# Altium footprint library Footprints.PcbLib: 33 footprints (part 3 of 3)
Each footprint in its own frame and in the unit in brackets; x right, y up, seen from the top. Pads: shape width x height; smd on the part's side, far side on the other; paste and mask are expansions set on the pad; w line width, h text height; cw(c..) or ccw(c..) is an arc to the next point about the centre after c.
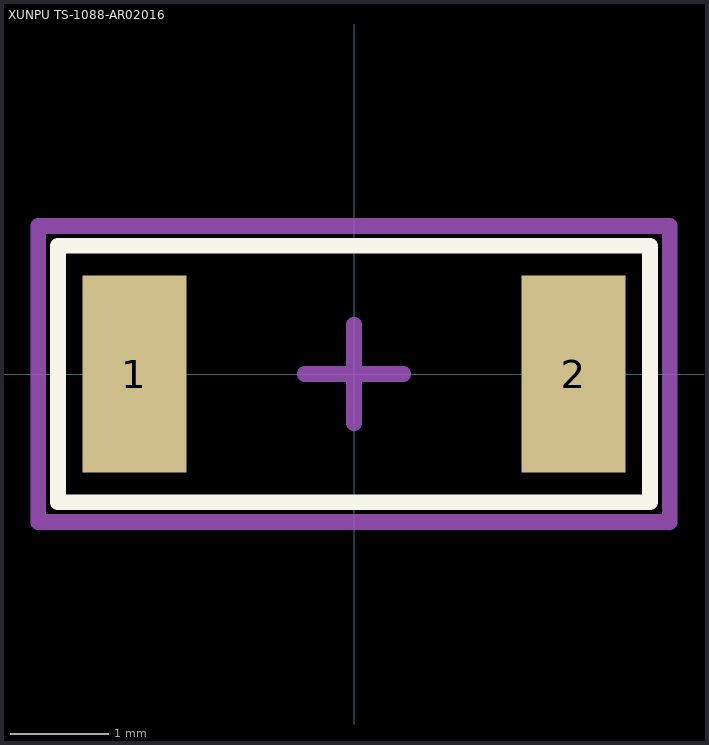
[diagram p2: the footprint, top view; thin cyan lines are the x and y axes]

## XUNPU TS-1088-AR02016 [mm]
pads (2):
  rect 1.05x2 smd: 1(-2.225,0) 2(2.225,0)
Top Overlay:
  lines w0.16: -3,-1.3 3,-1.3 3,1.3 -3,1.3 -3,-1.3
Top Designator:
  text ".Designator" at 0,0 h1.52
Top Courtyard:
  lines w0.16: -3.2,-1.5 3.2,-1.5 3.2,1.5 -3.2,1.5 -3.2,-1.5
Top Component Center:
  lines w0.16: -0.5,0 0.5,0 ; 0,-0.5 0,0.5